# Altium footprint library STM32f103C8T6.PcbLib: 1 footprints
Each footprint in its own frame and in the unit in brackets; x right, y up, seen from the top. Pads: shape width x height; smd on the part's side, far side on the other; paste and mask are expansions set on the pad; w line width, h text height; cw(c..) or ccw(c..) is an arc to the next point about the centre after c.
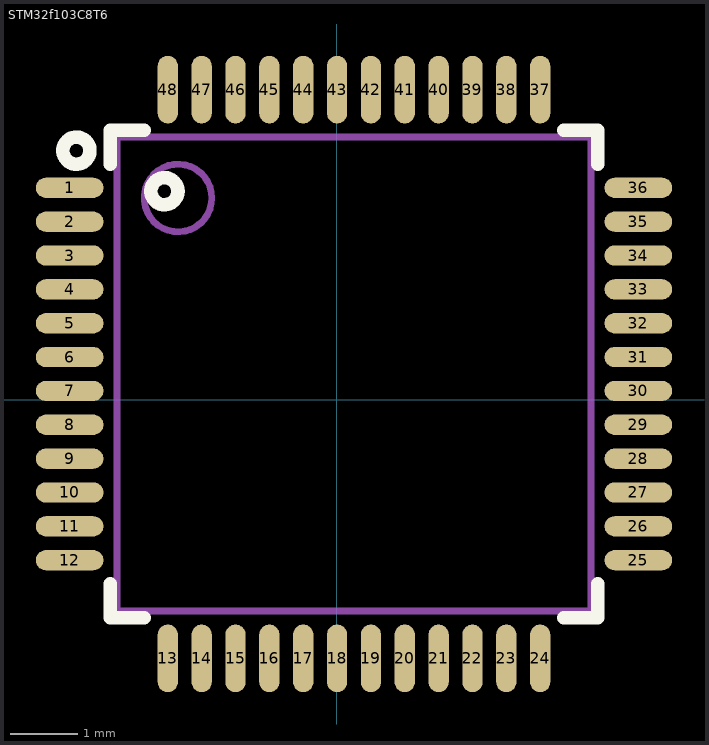
[diagram p0: the footprint, top view; thin cyan lines are the x and y axes]

## STM32f103C8T6 [mm]
pads (48):
  oval 1x0.3 smd mask+0.05: 1(-3.946,3.131) 2(-3.946,2.631) 3(-3.946,2.131) 4(-3.946,1.631) 5(-3.946,1.131) 6(-3.946,0.631) 7(-3.946,0.131) 8(-3.946,-0.369) 9(-3.946,-0.869) 10(-3.946,-1.369) 11(-3.946,-1.869) 12(-3.946,-2.369) 25(4.454,-2.369) 26(4.454,-1.869) 27(4.454,-1.369) 28(4.454,-0.869) 29(4.454,-0.369) 30(4.454,0.131) 31(4.454,0.631) 32(4.454,1.131) 33(4.454,1.631) 34(4.454,2.131) 35(4.454,2.631) 36(4.454,3.131)
  oval 0.3x1 smd mask+0.05: 13(-2.496,-3.819) 14(-1.996,-3.819) 15(-1.496,-3.819) 16(-0.996,-3.819) 17(-0.496,-3.819) 18(0.004,-3.819) 19(0.504,-3.819) 20(1.004,-3.819) 21(1.504,-3.819) 22(2.004,-3.819) 23(2.504,-3.819) 24(3.004,-3.819) 37(3.004,4.581) 38(2.504,4.581) 39(2.004,4.581) 40(1.504,4.581) 41(1.004,4.581) 42(0.504,4.581) 43(0.004,4.581) 44(-0.496,4.581) 45(-0.996,4.581) 46(-1.496,4.581) 47(-1.996,4.581) 48(-2.496,4.581)
Top Overlay:
  circle w0.2: c-2.546,3.081 r0.2
  circle w0.2: c-3.846,3.681 r0.2
  lines w0.2: -3.346,-2.719 -3.346,-3.219 -2.846,-3.219 ; -3.346,3.481 -3.346,3.981 -2.846,3.981 ; 3.354,-3.219 3.854,-3.219 3.854,-2.719 ; 3.354,3.981 3.854,3.981 3.854,3.481
Mechanical 13:
  circle w0.1: c-2.346,2.981 r0.5
  lines w0.1: -3.246,-3.119 3.754,-3.119 3.754,3.881 -3.246,3.881 -3.246,-3.119
3D body "LQFP48_Grid_0_5.STEP": height 1.6, standoff 0, extent -4.246,-4.119 4.754,4.881